# Altium schematic symbol library LTC3646EDE-1#PBF.SchLib: 1 symbol
Pins are listed as number, name and electrical type; pins without a type are passive.

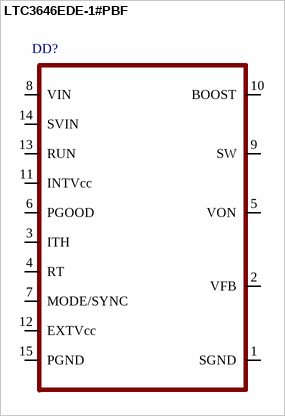
[diagram p0: symbol LTC3646EDE-1#PBF]

## LTC3646EDE-1#PBF
designator DD?
pins: 1 SGND, 2 VFB, 3 ITH, 4 RT, 5 VON, 6 PGOOD, 7 MODE/SYNC, 8 VIN, 9 SW, 10 BOOST, 11 INTVcc, 12 EXTVcc, 13 RUN, 14 SVIN, 15 PGND